# Altium schematic symbol library RoboRioConnector.SCHLIB: 2 symbols
Pins are listed as number, name and electrical type; pins without a type are passive.

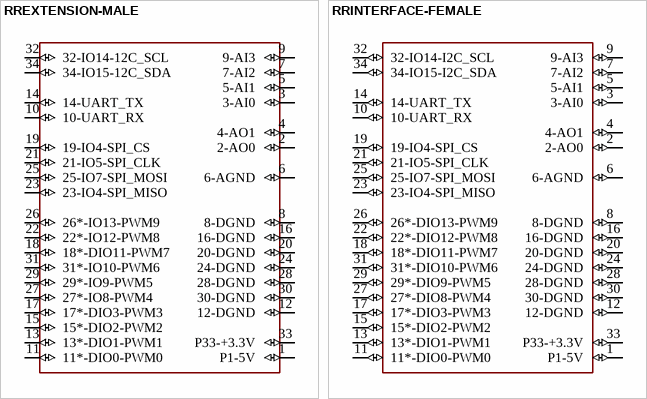
[diagram p0: symbols RREXTENSION-MALE to RRINTERFACE-FEMALE]

## RREXTENSION-MALE
designator ?
GateName_1: G$2; SymbolName_1: RR_EXTENSION_MALE; DeviceSetName: RREXTENSION-MALE; LibraryName: RoboRioConnector; Package: RREXT-MALE
footprint RREXT-MALE
pins: 1 P1-5V (io), 2 2-AO0 (io), 3 3-AI0 (io), 4 4-AO1 (io), 5 5-AI1 (io), 6 6-AGND (io), 7 7-AI2 (io), 8 8-DGND (io), 9 9-AI3 (io), 10 10-UART_RX (io), 11 11*-DIO0-PWM0 (io), 12 12-DGND (io), 13 13*-DIO1-PWM1 (io), 14 14-UART_TX (io), 15 15*-DIO2-PWM2 (io), 16 16-DGND (io), 17 17*-DIO3-PWM3 (io), 18 18*-DIO11-PWM7 (io), 19 19-IO4-SPI_CS (io), 20 20-DGND (io), 21 21-IO5-SPI_CLK (io), 22 22*-IO12-PWM8 (io), 23 23-IO4-SPI_MISO (io), 24 24-DGND (io), 25 25-IO7-SPI_MOSI (io), 26 26*-IO13-PWM9 (io), 27 27*-IO8-PWM4 (io), 28 28-DGND (io), 29 29*-IO9-PWM5 (io), 30 30-DGND (io), 31 31*-IO10-PWM6 (io), 32 32-IO14-12C_SCL (io), 33 P33-+3.3V (io), 34 34-IO15-12C_SDA (io)

## RRINTERFACE-FEMALE
designator ?
GateName_1: G$1; SymbolName_1: RR_INTERFACE_FEMALE; DeviceSetName: RRINTERFACE-FEMALE; LibraryName: RoboRioConnector; Package: RRINT-FEMALE
footprint RRINT-FEMALE
pins: 1 P1-5V (io), 2 2-AO0 (io), 3 3-AI0 (io), 4 4-AO1 (io), 5 5-AI1 (io), 6 6-AGND (io), 7 7-AI2 (io), 8 8-DGND (io), 9 9-AI3 (io), 10 10-UART_RX (io), 11 11*-DIO0-PWM0 (io), 12 12-DGND (io), 13 13*-DIO1-PWM1 (io), 14 14-UART_TX (io), 15 15*-DIO2-PWM2 (io), 16 16-DGND (io), 17 17*-DIO3-PWM3 (io), 18 18*-DIO11-PWM7 (io), 19 19-IO4-SPI_CS (io), 20 20-DGND (io), 21 21-IO5-SPI_CLK (io), 22 22*-DIO12-PWM8 (io), 23 23-IO4-SPI_MISO (io), 24 24-DGND (io), 25 25-IO7-SPI_MOSI (io), 26 26*-DIO13-PWM9 (io), 27 27*-DIO8-PWM4 (io), 28 28-DGND (io), 29 29*-DIO9-PWM5 (io), 30 30-DGND (io), 31 31*-DIO10-PWM6 (io), 32 32-IO14-I2C_SCL (io), 33 P33-+3.3V (io), 34 34-IO15-I2C_SDA (io)